# Altium integrated library TI Power Management Supervisor and Reset IC.IntLib: 819 symbols (part 30 of 30)
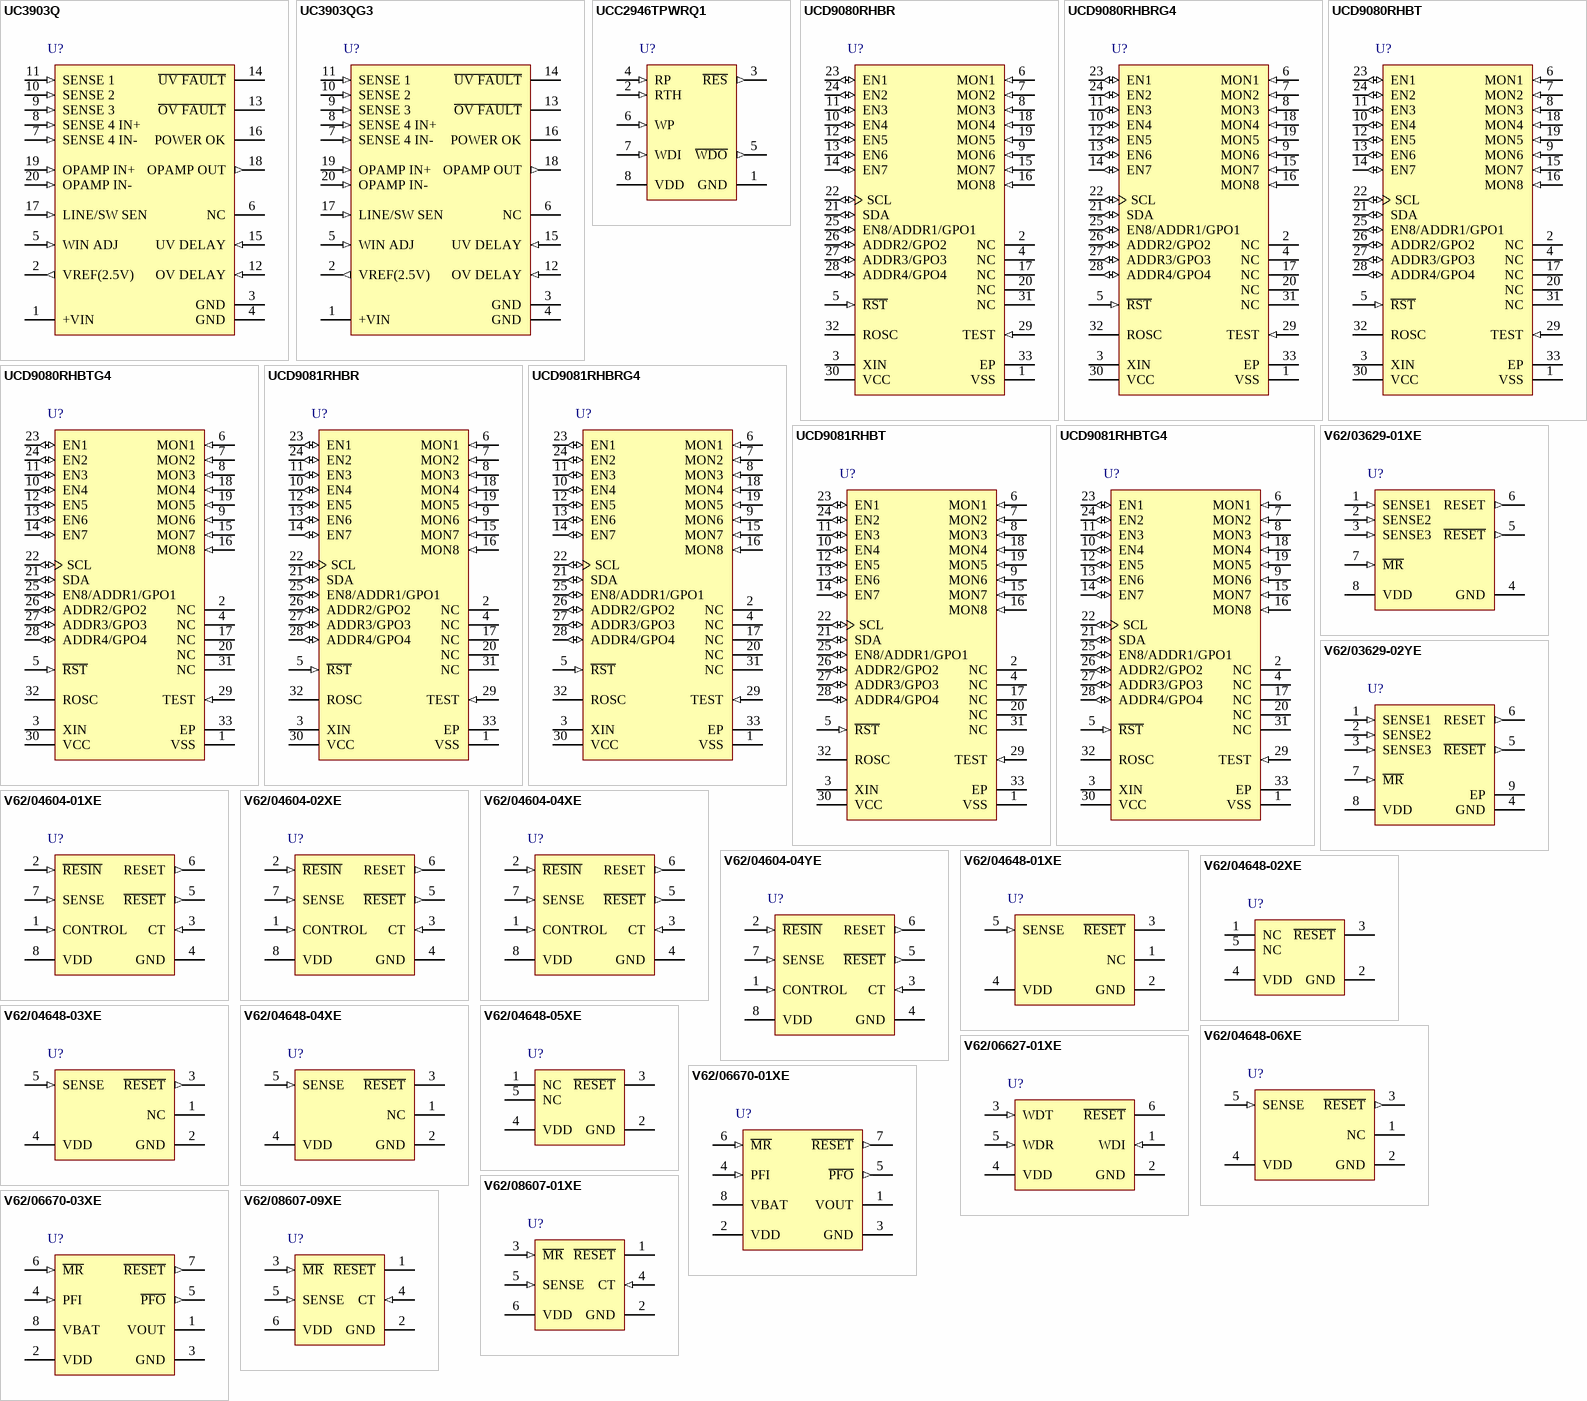
[diagram p50: symbols UC3903Q to V62/08607-09XE]

## V62/03629-02YE
designator U?
Enhanced Product Triple Processor Supervisor, 3 Supply Monitored, -55 to 125 degC, 8-pin MSOP-PowerPAD (DGN), Green (RoHS & no Sb/Br); Manufacturer: Texas Instruments; PartNumber: V62/03629-02YE; # of supplies monitored: 3; Iq(Typ)(uA): 15; Output Driver Type / Reset Output: Active-low, Push-pull; Rating: HiRel Enhanced Product; Reset Threshold Accuracy(%): 2.7; SubFamily: Supervisor and Reset IC; Threshold Voltage 1 (typ)(Typ)(V): 4.55; Threshold Voltage 2 (typ)(Typ)(V): 2.93; Threshold Voltage 3 (typ)(Typ)(V): Adjustable; Time Delay(ms): 200; VCC(Max)(V): 6; VCC(Min)(V): 2; DatasheetVersion: SGLS140A; PackageVersion: revF, May-2011; PackageReference: DGN8-1760X1425TP; PackageDescription: 8-Pin PowerPAD Plastic Small Outline Package 3 x 3 mm Body ,0.65 mm Pitch, Exposed Pad; Supplier 1: Newark; Supplier Part Number 1: 46M1446; Supplier 2: Mouser; Supplier Part Number 2: 595-V62/03629-02YE; Mounting Technology: Surface Mount; Code_JEDEC: MO-187-AA-T; ComponentLink1Description: Datasheet; ComponentLink1URL: http://www.ti.com/general/docs/lit/getliterature.tsp?genericPartNumber=TPS3307-33-EP&fileType=pdf
footprint DGN8-1760X1425TP_N (TSOP, 8-Leads, Body 3x3mm, Pitch 0.65mm, Thermal Pad 1.89x1.57mm, IPC Medium Density)
footprint DGN8-1760X1425TP_L (TSOP, 8-Leads, Body 3x3mm, Pitch 0.65mm, Thermal Pad 1.89x1.57mm, IPC High Density)
footprint DGN8-1760X1425TP_M (TSOP, 8-Leads, Body 3x3mm, Pitch 0.65mm, Thermal Pad 1.89x1.57mm, IPC Low Density)
pins: 1 SENSE1 (in), 2 SENSE2 (in), 3 SENSE3 (in), 4 GND (power), 5 ~{RESET} (out), 6 RESET (out), 7 ~{MR} (in), 8 VDD (power), 9 EP

## V62/04604-01XE
designator U?
Enhanced Product Micropower Supply Voltage Supervisor, 1 Supply Monitored, -40 to 125 degC, 8-pin TSSOP (PW), Green (RoHS & no Sb/Br); Manufacturer: Texas Instruments; PartNumber: V62/04604-01XE; # of supplies monitored: 1; Iq(Typ)(uA): 9; Output Driver Type / Reset Output: Active-low, Push-pull, Active-high, Push-pull; Rating: HiRel Enhanced Product; Reset Threshold Accuracy(%): 5.5; SubFamily: Supervisor and Reset IC; Threshold Voltage 1 (typ)(Typ)(V): Adjustable; Time Delay(ms): Programmable; VCC(Max)(V): 6; VCC(Min)(V): 2; DatasheetVersion: SGLS013E; PackageVersion: revG, Feb-2011; PackageReference: PW8; PackageDescription: 8-Pin Plastic Thin Small Outline Package 3 x 4.4 mm Body ,0.65 mm Pitch; Supplier 1: Newark; Supplier Part Number 1: 46M1562; Supplier 2: Mouser; Supplier Part Number 2: 595-V62/04604-01XE; Mounting Technology: Surface Mount; Code_JEDEC: MO-153; ComponentLink1Description: Datasheet; ComponentLink1URL: http://www.ti.com/general/docs/lit/getliterature.tsp?genericPartNumber=TLC7701-EP&fileType=pdf
footprint PW8_N (TSOP, 8-Leads, Body 3x4.4mm, Pitch 0.65mm, IPC Medium Density)
footprint PW8_L (TSOP, 8-Leads, Body 3x4.4mm, Pitch 0.65mm, IPC High Density)
footprint PW8_M (TSOP, 8-Leads, Body 3x4.4mm, Pitch 0.65mm, IPC Low Density)
pins: 1 CONTROL (in), 2 ~{RESIN} (in), 3 CT (in), 4 GND (power), 5 ~{RESET} (out), 6 RESET (out), 7 SENSE (in), 8 VDD (power)

## V62/04604-02XE
designator U?
Enhanced Product Micropower Supply Voltage Supervisor, 1 Supply Monitored, -40 to 125 degC, 8-pin TSSOP (PW), Green (RoHS & no Sb/Br); Manufacturer: Texas Instruments; PartNumber: V62/04604-02XE; # of supplies monitored: 1; Iq(Typ)(uA): 9; Output Driver Type / Reset Output: Active-low, Push-pull, Active-high, Push-pull; Rating: HiRel Enhanced Product; Reset Threshold Accuracy(%): 1.8; SubFamily: Supervisor and Reset IC; Threshold Voltage 1 (typ)(Typ)(V): 4.55; Time Delay(ms): Programmable; VCC(Max)(V): 6; VCC(Min)(V): 2; DatasheetVersion: SGLS013E; PackageVersion: revG, Feb-2011; PackageReference: PW8; PackageDescription: 8-Pin Plastic Thin Small Outline Package 3 x 4.4 mm Body ,0.65 mm Pitch; Supplier 1: Newark; Supplier Part Number 1: 46M1563; Supplier 2: Mouser; Supplier Part Number 2: 595-V62/04604-02XE; Mounting Technology: Surface Mount; Code_JEDEC: MO-153; ComponentLink1Description: Datasheet; ComponentLink1URL: http://www.ti.com/general/docs/lit/getliterature.tsp?genericPartNumber=TLC7705-EP&fileType=pdf
footprint PW8_N (TSOP, 8-Leads, Body 3x4.4mm, Pitch 0.65mm, IPC Medium Density)
footprint PW8_L (TSOP, 8-Leads, Body 3x4.4mm, Pitch 0.65mm, IPC High Density)
footprint PW8_M (TSOP, 8-Leads, Body 3x4.4mm, Pitch 0.65mm, IPC Low Density)
pins: 1 CONTROL (in), 2 ~{RESIN} (in), 3 CT (in), 4 GND (power), 5 ~{RESET} (out), 6 RESET (out), 7 SENSE (in), 8 VDD (power)

## V62/04604-04XE
designator U?
Enhanced Product Micropower Supply Voltage Supervisor, 1 Supply Monitored, -55 to 125 degC, 8-pin TSSOP (PW), Green (RoHS & no Sb/Br); Manufacturer: Texas Instruments; PartNumber: V62/04604-04XE; # of supplies monitored: 1; Iq(Typ)(uA): 9; Output Driver Type / Reset Output: Active-low, Push-pull, Active-high, Push-pull; Rating: HiRel Enhanced Product; Reset Threshold Accuracy(%): 5.5; SubFamily: Supervisor and Reset IC; Threshold Voltage 1 (typ)(Typ)(V): Adjustable; Time Delay(ms): Programmable; VCC(Max)(V): 6; VCC(Min)(V): 2; DatasheetVersion: SGLS013E; PackageVersion: revG, Feb-2011; PackageReference: PW8; PackageDescription: 8-Pin Plastic Thin Small Outline Package 3 x 4.4 mm Body ,0.65 mm Pitch; Supplier 1: Newark; Supplier Part Number 1: 46M1565; Supplier 2: Mouser; Supplier Part Number 2: 595-V62/04604-04XE; Mounting Technology: Surface Mount; Code_JEDEC: MO-153; ComponentLink1Description: Datasheet; ComponentLink1URL: http://www.ti.com/general/docs/lit/getliterature.tsp?genericPartNumber=TLC7701-EP&fileType=pdf
footprint PW8_N (TSOP, 8-Leads, Body 3x4.4mm, Pitch 0.65mm, IPC Medium Density)
footprint PW8_L (TSOP, 8-Leads, Body 3x4.4mm, Pitch 0.65mm, IPC High Density)
footprint PW8_M (TSOP, 8-Leads, Body 3x4.4mm, Pitch 0.65mm, IPC Low Density)
pins: 1 CONTROL (in), 2 ~{RESIN} (in), 3 CT (in), 4 GND (power), 5 ~{RESET} (out), 6 RESET (out), 7 SENSE (in), 8 VDD (power)

## V62/04604-04YE
designator U?
Enhanced Product Micropower Supply Voltage Supervisor, 1 Supply Monitored, -55 to 125 degC, 8-pin SOIC (D), Green (RoHS & no Sb/Br); Manufacturer: Texas Instruments; PartNumber: V62/04604-04YE; # of supplies monitored: 1; Iq(Typ)(uA): 9; Output Driver Type / Reset Output: Active-low, Push-pull, Active-high, Push-pull; Rating: HiRel Enhanced Product; Reset Threshold Accuracy(%): 5.5; SubFamily: Supervisor and Reset IC; Threshold Voltage 1 (typ)(Typ)(V): Adjustable; Time Delay(ms): Programmable; VCC(Max)(V): 6; VCC(Min)(V): 2; DatasheetVersion: SGLS013E; PackageVersion: revM, Jun-2011; PackageReference: D8; PackageDescription: 8-Pin Plastic Small Outline Integrated Circuit, 4.9 x 3.9 mm, Pitch 1.27 mm Pitch; Supplier 1: Mouser; Supplier Part Number 1: 595-V62/04604-04YE; Mounting Technology: Surface Mount; Code_JEDEC: MS-012AA; ComponentLink1Description: Datasheet; ComponentLink1URL: http://www.ti.com/general/docs/lit/getliterature.tsp?genericPartNumber=TLC7701-EP&fileType=pdf
footprint D8_N (SOIC, 8-Leads, Body 4.9x3.9mm, Pitch 1.27mm, IPC Medium Density)
footprint D8_L (SOIC, 8-Leads, Body 4.9x3.9mm, Pitch 1.27mm, IPC High Density)
footprint D8_M (SOIC, 8-Leads, Body 4.9x3.9mm, Pitch 1.27mm, IPC Low Density)
pins: 1 CONTROL (in), 2 ~{RESIN} (in), 3 CT (in), 4 GND (power), 5 ~{RESET} (out), 6 RESET (out), 7 SENSE (in), 8 VDD (power)

## V62/04648-01XE
designator U?
Enhanced Product Single Voltage Detector, 1 Supply Monitored, -40 to 125 degC, 5-pin SC70 (DCK), Green (RoHS & no Sb/Br); Manufacturer: Texas Instruments; PartNumber: V62/04648-01XE; # of supplies monitored: 1; Iq(Typ)(uA): 3; Output Driver Type / Reset Output: Active-low, Open-drain; Rating: HiRel Enhanced Product; Reset Threshold Accuracy(%): 1.5; SubFamily: Supervisor and Reset IC; Threshold Voltage 1 (typ)(Typ)(V): Adjustable; VCC(Max)(V): 6; VCC(Min)(V): 1.3; DatasheetVersion: SGLS227C; PackageVersion: revG, Jan-2007; PackageReference: DCK5; PackageDescription: 5-Pin Plastic Small-Outline Package, 2 x 1.3 mm Body, 0.65 mm Pitch, 2.1 mm Lead Span; Supplier 1: Newark; Supplier Part Number 1: 46M1598; Supplier 2: Mouser; Supplier Part Number 2: 595-V62/04648-01XE; Mounting Technology: Surface Mount; Code_JEDEC: MO-203-AA; ComponentLink1Description: Datasheet; ComponentLink1URL: http://www.ti.com/general/docs/lit/getliterature.tsp?genericPartNumber=TPS3803-01-EP&fileType=pdf
footprint DCK5_N (SOT353, 5-Leads, Body 2x1.3mm, Pitch 0.65mm, Lead Span 2.1mm, IPC Medium Density)
footprint DCK5_L (SOT353, 5-Leads, Body 2x1.3mm, Pitch 0.65mm, Lead Span 2.1mm, IPC High Density)
footprint DCK5_M (SOT353, 5-Leads, Body 2x1.3mm, Pitch 0.65mm, Lead Span 2.1mm, IPC Low Density)
pins: 1 NC "No internal connection", 2 GND (power) "Ground", 3 ~{RESET} (oc) "Active-low reset output (TPS3803--open-drain, TPS3805--push/pull)", 4 VDD (power) "Input supply voltage, fixed sense input for TPS3803G15 and TPS3805", 5 SENSE (in) "Adjustable sense input"

## V62/04648-02XE
designator U?
Enhanced Product Single Voltage Detector, 1 Supply Monitored, -40 to 125 degC, 5-pin SC70 (DCK), Green (RoHS & no Sb/Br); Manufacturer: Texas Instruments; PartNumber: V62/04648-02XE; # of supplies monitored: 1; Iq(Typ)(uA): 3; Output Driver Type / Reset Output: Active-low, Open-drain; Rating: HiRel Enhanced Product; Reset Threshold Accuracy(%): 1.5; SubFamily: Supervisor and Reset IC; Threshold Voltage 1 (typ)(Typ)(V): 1.4; VCC(Max)(V): 6; VCC(Min)(V): 1.3; DatasheetVersion: SGLS227C; PackageVersion: revG, Jan-2007; PackageReference: DCK5; PackageDescription: 5-Pin Plastic Small-Outline Package, 2 x 1.3 mm Body, 0.65 mm Pitch, 2.1 mm Lead Span; Supplier 1: Mouser; Supplier Part Number 1: 595-V62/04648-02XE; Mounting Technology: Surface Mount; Code_JEDEC: MO-203-AA; ComponentLink1Description: Datasheet; ComponentLink1URL: http://www.ti.com/general/docs/lit/getliterature.tsp?genericPartNumber=TPS3803G15-EP&fileType=pdf
footprint DCK5_N (SOT353, 5-Leads, Body 2x1.3mm, Pitch 0.65mm, Lead Span 2.1mm, IPC Medium Density)
footprint DCK5_L (SOT353, 5-Leads, Body 2x1.3mm, Pitch 0.65mm, Lead Span 2.1mm, IPC High Density)
footprint DCK5_M (SOT353, 5-Leads, Body 2x1.3mm, Pitch 0.65mm, Lead Span 2.1mm, IPC Low Density)
pins: 1 NC "No internal connection", 2 GND (power) "Ground", 3 ~{RESET} (oc) "Active-low reset output (TPS3803--open-drain, TPS3805--push/pull)", 4 VDD (power) "Input supply voltage, fixed sense input for TPS3803G15 and TPS3805", 5 NC "No internal connection"

## V62/04648-03XE
designator U?
Enhanced Product Dual Voltage Detector, 2 Supply Monitored, -40 to 125 degC, 5-pin SC70 (DCK), Green (RoHS & no Sb/Br); Manufacturer: Texas Instruments; PartNumber: V62/04648-03XE; # of supplies monitored: 2; Iq(Typ)(uA): 3; Output Driver Type / Reset Output: Active-low, Push-pull; Rating: HiRel Enhanced Product; Reset Threshold Accuracy(%): 1.5; SubFamily: Supervisor and Reset IC; Threshold Voltage 1 (typ)(Typ)(V): 3.05; Threshold Voltage 2 (typ)(Typ)(V): Adjustable; VCC(Max)(V): 6; VCC(Min)(V): 1.3; DatasheetVersion: SGLS227C; PackageVersion: revG, Jan-2007; PackageReference: DCK5; PackageDescription: 5-Pin Plastic Small-Outline Package, 2 x 1.3 mm Body, 0.65 mm Pitch, 2.1 mm Lead Span; Supplier 1: Newark; Supplier Part Number 1: 46M1600; Supplier 2: Mouser; Supplier Part Number 2: 595-V62/04648-03XE; Mounting Technology: Surface Mount; Code_JEDEC: MO-203-AA; ComponentLink1Description: Datasheet; ComponentLink1URL: http://www.ti.com/general/docs/lit/getliterature.tsp?genericPartNumber=TPS3805H33-EP&fileType=pdf
footprint DCK5_N (SOT353, 5-Leads, Body 2x1.3mm, Pitch 0.65mm, Lead Span 2.1mm, IPC Medium Density)
footprint DCK5_L (SOT353, 5-Leads, Body 2x1.3mm, Pitch 0.65mm, Lead Span 2.1mm, IPC High Density)
footprint DCK5_M (SOT353, 5-Leads, Body 2x1.3mm, Pitch 0.65mm, Lead Span 2.1mm, IPC Low Density)
pins: 1 NC "No internal connection", 2 GND (power) "Ground", 3 ~{RESET} (out) "Active-low reset output (TPS3803--open-drain, TPS3805--push/pull)", 4 VDD (power) "Input supply voltage, fixed sense input for TPS3803G15 and TPS3805", 5 SENSE (in) "Adjustable sense input"

## V62/04648-04XE
designator U?
Enhanced Product Single Voltage Detector, 1 Supply Monitored, -55 to 125 degC, 5-pin SC70 (DCK), Green (RoHS & no Sb/Br); Manufacturer: Texas Instruments; PartNumber: V62/04648-04XE; # of supplies monitored: 1; Iq(Typ)(uA): 3; Output Driver Type / Reset Output: Active-low, Open-drain; Rating: HiRel Enhanced Product; Reset Threshold Accuracy(%): 1.5; SubFamily: Supervisor and Reset IC; Threshold Voltage 1 (typ)(Typ)(V): Adjustable; VCC(Max)(V): 6; VCC(Min)(V): 1.3; DatasheetVersion: SGLS227C; PackageVersion: revG, Jan-2007; PackageReference: DCK5; PackageDescription: 5-Pin Plastic Small-Outline Package, 2 x 1.3 mm Body, 0.65 mm Pitch, 2.1 mm Lead Span; Supplier 1: Newark; Supplier Part Number 1: 46M1601; Supplier 2: Mouser; Supplier Part Number 2: 595-V62/04648-04XE; Mounting Technology: Surface Mount; Code_JEDEC: MO-203-AA; ComponentLink1Description: Datasheet; ComponentLink1URL: http://www.ti.com/general/docs/lit/getliterature.tsp?genericPartNumber=TPS3803-01-EP&fileType=pdf
footprint DCK5_N (SOT353, 5-Leads, Body 2x1.3mm, Pitch 0.65mm, Lead Span 2.1mm, IPC Medium Density)
footprint DCK5_L (SOT353, 5-Leads, Body 2x1.3mm, Pitch 0.65mm, Lead Span 2.1mm, IPC High Density)
footprint DCK5_M (SOT353, 5-Leads, Body 2x1.3mm, Pitch 0.65mm, Lead Span 2.1mm, IPC Low Density)
pins: 1 NC "No internal connection", 2 GND (power) "Ground", 3 ~{RESET} (oc) "Active-low reset output (TPS3803--open-drain, TPS3805--push/pull)", 4 VDD (power) "Input supply voltage, fixed sense input for TPS3803G15 and TPS3805", 5 SENSE (in) "Adjustable sense input"

## V62/04648-05XE
designator U?
Enhanced Product Single Voltage Detector, 1 Supply Monitored, -55 to 125 degC, 5-pin SC70 (DCK), Green (RoHS & no Sb/Br); Manufacturer: Texas Instruments; PartNumber: V62/04648-05XE; # of supplies monitored: 1; Iq(Typ)(uA): 3; Output Driver Type / Reset Output: Active-low, Open-drain; Rating: HiRel Enhanced Product; Reset Threshold Accuracy(%): 1.5; SubFamily: Supervisor and Reset IC; Threshold Voltage 1 (typ)(Typ)(V): 1.4; VCC(Max)(V): 6; VCC(Min)(V): 1.3; DatasheetVersion: SGLS227C; PackageVersion: revG, Jan-2007; PackageReference: DCK5; PackageDescription: 5-Pin Plastic Small-Outline Package, 2 x 1.3 mm Body, 0.65 mm Pitch, 2.1 mm Lead Span; Supplier 1: Mouser; Supplier Part Number 1: 595-V62/04648-05XE; Mounting Technology: Surface Mount; Code_JEDEC: MO-203-AA; ComponentLink1Description: Datasheet; ComponentLink1URL: http://www.ti.com/general/docs/lit/getliterature.tsp?genericPartNumber=TPS3803G15-EP&fileType=pdf
footprint DCK5_N (SOT353, 5-Leads, Body 2x1.3mm, Pitch 0.65mm, Lead Span 2.1mm, IPC Medium Density)
footprint DCK5_L (SOT353, 5-Leads, Body 2x1.3mm, Pitch 0.65mm, Lead Span 2.1mm, IPC High Density)
footprint DCK5_M (SOT353, 5-Leads, Body 2x1.3mm, Pitch 0.65mm, Lead Span 2.1mm, IPC Low Density)
pins: 1 NC "No internal connection", 2 GND (power) "Ground", 3 ~{RESET} (oc) "Active-low reset output (TPS3803--open-drain, TPS3805--push/pull)", 4 VDD (power) "Input supply voltage, fixed sense input for TPS3803G15 and TPS3805", 5 NC "No internal connection"

## V62/04648-06XE
designator U?
Enhanced Product Dual Voltage Detector, 2 Supply Monitored, -55 to 125 degC, 5-pin SC70 (DCK), Green (RoHS & no Sb/Br); Manufacturer: Texas Instruments; PartNumber: V62/04648-06XE; # of supplies monitored: 2; Iq(Typ)(uA): 3; Output Driver Type / Reset Output: Active-low, Push-pull; Rating: HiRel Enhanced Product; Reset Threshold Accuracy(%): 1.5; SubFamily: Supervisor and Reset IC; Threshold Voltage 1 (typ)(Typ)(V): 3.05; Threshold Voltage 2 (typ)(Typ)(V): Adjustable; VCC(Max)(V): 6; VCC(Min)(V): 1.3; DatasheetVersion: SGLS227C; PackageVersion: revG, Jan-2007; PackageReference: DCK5; PackageDescription: 5-Pin Plastic Small-Outline Package, 2 x 1.3 mm Body, 0.65 mm Pitch, 2.1 mm Lead Span; Supplier 1: Newark; Supplier Part Number 1: 46M1603; Supplier 2: Mouser; Supplier Part Number 2: 595-V62/04648-06XE; Mounting Technology: Surface Mount; Code_JEDEC: MO-203-AA; ComponentLink1Description: Datasheet; ComponentLink1URL: http://www.ti.com/general/docs/lit/getliterature.tsp?genericPartNumber=TPS3805H33-EP&fileType=pdf
footprint DCK5_N (SOT353, 5-Leads, Body 2x1.3mm, Pitch 0.65mm, Lead Span 2.1mm, IPC Medium Density)
footprint DCK5_L (SOT353, 5-Leads, Body 2x1.3mm, Pitch 0.65mm, Lead Span 2.1mm, IPC High Density)
footprint DCK5_M (SOT353, 5-Leads, Body 2x1.3mm, Pitch 0.65mm, Lead Span 2.1mm, IPC Low Density)
pins: 1 NC "No internal connection", 2 GND (power) "Ground", 3 ~{RESET} (out) "Active-low reset output (TPS3803--open-drain, TPS3805--push/pull)", 4 VDD (power) "Input supply voltage, fixed sense input for TPS3803G15 and TPS3805", 5 SENSE (in) "Adjustable sense input"

## V62/06627-01XE
designator U?
Enhanced Product Processor Supervisory Circuit with Window-Watchdog, 1 Supply Monitored, -55 to 125 degC, 6-pin SOT-23 (DBV), Green (RoHS & no Sb/Br); Manufacturer: Texas Instruments; PartNumber: V62/06627-01XE; # of supplies monitored: 1; Iq(Typ)(uA): 9; Output Driver Type / Reset Output: Active-low, Open-drain; Rating: HiRel Enhanced Product; Reset Threshold Accuracy(%): 2.2; SubFamily: Supervisor and Reset IC; Threshold Voltage 1 (typ)(Typ)(V): 2.93; Time Delay(ms): 25; VCC(Max)(V): 6; VCC(Min)(V): 2; Watchdog Timer WDI(sec): Programmable; DatasheetVersion: SGLS343A; PackageVersion: revK, Mar-2006; PackageReference: DBV6; PackageDescription: 6-Pin Plastic Small-Outline Package, 2.9 x 1.6 mm Body, 0.95 mm Pitch, 2.8 mm Lead Span; Supplier 1: Newark; Supplier Part Number 1: 46M1826; Supplier 2: Mouser; Supplier Part Number 2: 595-V62/06627-01XE; Mounting Technology: Surface Mount; Code_JEDEC: MO-178-AB*; ComponentLink1Description: Datasheet; ComponentLink1URL: http://www.ti.com/general/docs/lit/getliterature.tsp?genericPartNumber=TPS3813K33-EP&fileType=pdf
footprint DBV6_N (SOT23, 6-Leads, Body 2.9x1.6mm, Pitch 0.95mm, Lead Span 2.8mm, IPC Medium Density)
footprint DBV6_L (SOT23, 6-Leads, Body 2.9x1.6mm, Pitch 0.95mm, Lead Span 2.8mm, IPC High Density)
footprint DBV6_M (SOT23, 6-Leads, Body 2.9x1.6mm, Pitch 0.95mm, Lead Span 2.8mm, IPC Low Density)
pins: 1 WDI (in) "Watchdog timer input.", 2 GND (power) "Ground.", 3 WDT (in) "Programmable watchdog delay input.", 4 VDD (power) "Supply voltage and supervising input.", 5 WDR (in) "Selectable watchdog window ratio input.", 6 ~{RESET} (oc) "Open-drain reset output."

## V62/06670-01XE
designator U?
Enhanced Product Backup-Battery Supervisor for Ram Retention, 1 Supply Monitored, -55 to 125 degC, 8-pin MSOP (DGK), Green (RoHS & no Sb/Br); Manufacturer: Texas Instruments; PartNumber: V62/06670-01XE; # of supplies monitored: 1; Iq(Typ)(uA): 15; Output Driver Type / Reset Output: Active-low, Push-pull; Rating: HiRel Enhanced Product; Reset Threshold Accuracy(%): 2; SubFamily: Supervisor and Reset IC; Threshold Voltage 1 (typ)(Typ)(V): 2.93; Threshold Voltage 2 (typ)(Typ)(V): Adjustable; Time Delay(ms): 100; VCC(Max)(V): 5.5; VCC(Min)(V): 1.65; DatasheetVersion: SGLS350C; PackageVersion: revE, May-2006; PackageReference: DGK8; PackageDescription: 8-Pin Thin Small Outline Package 3 x 3 mm Body ,0.65 mm Pitch; Supplier 1: Newark; Supplier Part Number 1: 46M3184; Supplier 2: Mouser; Supplier Part Number 2: 595-V62/06670-01XE; Mounting Technology: Surface Mount; Code_JEDEC: MO-187-AA; ComponentLink1Description: Datasheet; ComponentLink1URL: http://www.ti.com/general/docs/lit/getliterature.tsp?genericPartNumber=TPS3619-33-EP&fileType=pdf
footprint DGK8_N (TSOP, 8-Leads, Body 3x3mm, Pitch 0.65mm, IPC Medium Density)
footprint DGK8_L (TSOP, 8-Leads, Body 3x3mm, Pitch 0.65mm, IPC High Density)
footprint DGK8_M (TSOP, 8-Leads, Body 3x3mm, Pitch 0.65mm, IPC Low Density)
pins: 1 VOUT (power) "Supply output voltage", 2 VDD (power) "Supply input voltage", 3 GND (power) "Ground", 4 PFI (in) "Power-fail comparator input", 5 ~{PFO} (out) "Power-fail comparator output", 6 ~{MR} (in) "Manual reset", 7 ~{RESET} (out) "Active-low reset", 8 VBAT (power) "Backup battery"

## V62/06670-03XE
designator U?
Enhanced Product Backup-Battery Supervisor for Ram Retention, 1 Supply Monitored, -55 to 125 degC, 8-pin MSOP (DGK), Green (RoHS & no Sb/Br); Manufacturer: Texas Instruments; PartNumber: V62/06670-03XE; # of supplies monitored: 1; Iq(Typ)(uA): 15; Output Driver Type / Reset Output: Active-low, Push-pull; Rating: HiRel Enhanced Product; Reset Threshold Accuracy(%): 2; SubFamily: Supervisor and Reset IC; Threshold Voltage 1 (typ)(Typ)(V): 2.93; Threshold Voltage 2 (typ)(Typ)(V): Adjustable; Time Delay(ms): 100; VCC(Max)(V): 5.5; VCC(Min)(V): 1.65; DatasheetVersion: SGLS350C; PackageVersion: revE, May-2006; PackageReference: DGK8; PackageDescription: 8-Pin Thin Small Outline Package 3 x 3 mm Body ,0.65 mm Pitch; Supplier 1: Newark; Supplier Part Number 1: 46M3185; Supplier 2: Mouser; Supplier Part Number 2: 595-V62/06670-03XE; Mounting Technology: Surface Mount; Code_JEDEC: MO-187-AA; ComponentLink1Description: Datasheet; ComponentLink1URL: http://www.ti.com/general/docs/lit/getliterature.tsp?genericPartNumber=TPS3620-33-EP&fileType=pdf
footprint DGK8_N (TSOP, 8-Leads, Body 3x3mm, Pitch 0.65mm, IPC Medium Density)
footprint DGK8_L (TSOP, 8-Leads, Body 3x3mm, Pitch 0.65mm, IPC High Density)
footprint DGK8_M (TSOP, 8-Leads, Body 3x3mm, Pitch 0.65mm, IPC Low Density)
pins: 1 VOUT (power) "Supply output voltage", 2 VDD (power) "Supply input voltage", 3 GND (power) "Ground", 4 PFI (in) "Power-fail comparator input", 5 ~{PFO} (out) "Power-fail comparator output", 6 ~{MR} (in) "Manual reset", 7 ~{RESET} (out) "Active-low reset", 8 VBAT (power) "Backup battery"

## V62/08607-01XE
designator U?
Enhanced Product Low Quiescent Current, Programmable Delay Supervisory Circuit, 1 Supply Monitored, -55 to 125 degC, 6-pin SOT-23 (DBV), Green (RoHS & no Sb/Br); Manufacturer: Texas Instruments; PartNumber: V62/08607-01XE; # of supplies monitored: 1; Iq(Typ)(uA): 2.4; Output Driver Type / Reset Output: Active-low, Open-drain; Rating: HiRel Enhanced Product; Reset Threshold Accuracy(%): 0.5; SubFamily: Supervisor and Reset IC; Threshold Voltage 1 (typ)(Typ)(V): Adjustable; VCC(Max)(V): 6.5; VCC(Min)(V): 1.8; DatasheetVersion: SBVS103C; PackageVersion: revK, Mar-2006; PackageReference: DBV6; PackageDescription: 6-Pin Plastic Small-Outline Package, 2.9 x 1.6 mm Body, 0.95 mm Pitch, 2.8 mm Lead Span; Supplier 1: Newark; Supplier Part Number 1: 45P8397; Supplier 2: Mouser; Supplier Part Number 2: 595-V62/08607-01XE; Time Delay(ms): Programmable; Mounting Technology: Surface Mount; Code_JEDEC: MO-178-AB*; ComponentLink1Description: Datasheet; ComponentLink1URL: http://www.ti.com/general/docs/lit/getliterature.tsp?genericPartNumber=TPS3808-EP&fileType=pdf
footprint DBV6_N (SOT23, 6-Leads, Body 2.9x1.6mm, Pitch 0.95mm, Lead Span 2.8mm, IPC Medium Density)
footprint DBV6_L (SOT23, 6-Leads, Body 2.9x1.6mm, Pitch 0.95mm, Lead Span 2.8mm, IPC High Density)
footprint DBV6_M (SOT23, 6-Leads, Body 2.9x1.6mm, Pitch 0.95mm, Lead Span 2.8mm, IPC Low Density)
pins: 1 ~{RESET} (hiz) "R\E\S\E\T\ is an open-drain output that is driven to a low impedance state when R\E\S\E\T\ is asserted (either the SENSE input is lower than the threshold voltage (VIT) or the M\R\ pin is set to a logic low). R\E\S\E\T\ (See Datasheet)", 2 GND (power) "Ground", 3 ~{MR} (in) "Driving the manual reset pin (M\R\) low asserts R\E\S\E\T\. M\R\ is internally tied to VDD by a 90k ohm pullup resistor", 4 CT (in) "Reset period programming pin. Connecting this pin to VDD through a 40-k ohm to 200-k ohm resistor or leaving it open results in fixed delay times (see Electrical Characteristics). Connecting this pin to a ground referenced (See Datasheet)", 5 SENSE (in) "This pin is connected to the voltage to be monitored. If the voltage at this terminal drops below the threshold voltage VIT, then R\E\S\E\T\ is asserted.", 6 VDD (power) "Supply voltage. It is good analog design practice to place a 0.1-µF ceramic capacitor close to this pin."

## V62/08607-09XE
designator U?
Enhanced Product Low Quiescent Current, Programmable Delay Supervisory Circuit, 1 Supply Monitored, -55 to 125 degC, 6-pin SOT-23 (DBV), Green (RoHS & no Sb/Br); Manufacturer: Texas Instruments; PartNumber: V62/08607-09XE; # of supplies monitored: 1; Iq(Typ)(uA): 2.4; Output Driver Type / Reset Output: Active-low, Open-drain; Rating: HiRel Enhanced Product; Reset Threshold Accuracy(%): 0.5; SubFamily: Supervisor and Reset IC; Threshold Voltage 1 (typ)(Typ)(V): Adjustable; VCC(Max)(V): 6.5; VCC(Min)(V): 1.8; DatasheetVersion: SBVS103C; PackageVersion: revK, Mar-2006; PackageReference: DBV6; PackageDescription: 6-Pin Plastic Small-Outline Package, 2.9 x 1.6 mm Body, 0.95 mm Pitch, 2.8 mm Lead Span; Supplier 1: Newark; Supplier Part Number 1: 64R0834; Supplier 2: Mouser; Supplier Part Number 2: 595-V62/08607-09XE; Time Delay(ms): Programmable; Mounting Technology: Surface Mount; Code_JEDEC: MO-178-AB*; ComponentLink1Description: Datasheet; ComponentLink1URL: http://www.ti.com/general/docs/lit/getliterature.tsp?genericPartNumber=TPS3808-EP&fileType=pdf
footprint DBV6_N (SOT23, 6-Leads, Body 2.9x1.6mm, Pitch 0.95mm, Lead Span 2.8mm, IPC Medium Density)
footprint DBV6_L (SOT23, 6-Leads, Body 2.9x1.6mm, Pitch 0.95mm, Lead Span 2.8mm, IPC High Density)
footprint DBV6_M (SOT23, 6-Leads, Body 2.9x1.6mm, Pitch 0.95mm, Lead Span 2.8mm, IPC Low Density)
pins: 1 ~{RESET} (hiz) "R\E\S\E\T\ is an open-drain output that is driven to a low impedance state when R\E\S\E\T\ is asserted (either the SENSE input is lower than the threshold voltage (VIT) or the M\R\ pin is set to a logic low). R\E\S\E\T\ (See Datasheet)", 2 GND (power) "Ground", 3 ~{MR} (in) "Driving the manual reset pin (M\R\) low asserts R\E\S\E\T\. M\R\ is internally tied to VDD by a 90k ohm pullup resistor", 4 CT (in) "Reset period programming pin. Connecting this pin to VDD through a 40-k ohm to 200-k ohm resistor or leaving it open results in fixed delay times (see Electrical Characteristics). Connecting this pin to a ground referenced (See Datasheet)", 5 SENSE (in) "This pin is connected to the voltage to be monitored. If the voltage at this terminal drops below the threshold voltage VIT, then R\E\S\E\T\ is asserted.", 6 VDD (power) "Supply voltage. It is good analog design practice to place a 0.1-µF ceramic capacitor close to this pin."